# EAGLE library part HEADER_01X34 (library MF_Connectors)
Library: MF_Connectors Description: Header Connector with 34 Positions and 01 Rows. Use the LABEL Attribute to label the pin on the schematic and PCB. You can remove the attributes on the PCB by using the SMASH function on the part and then deleting the text.
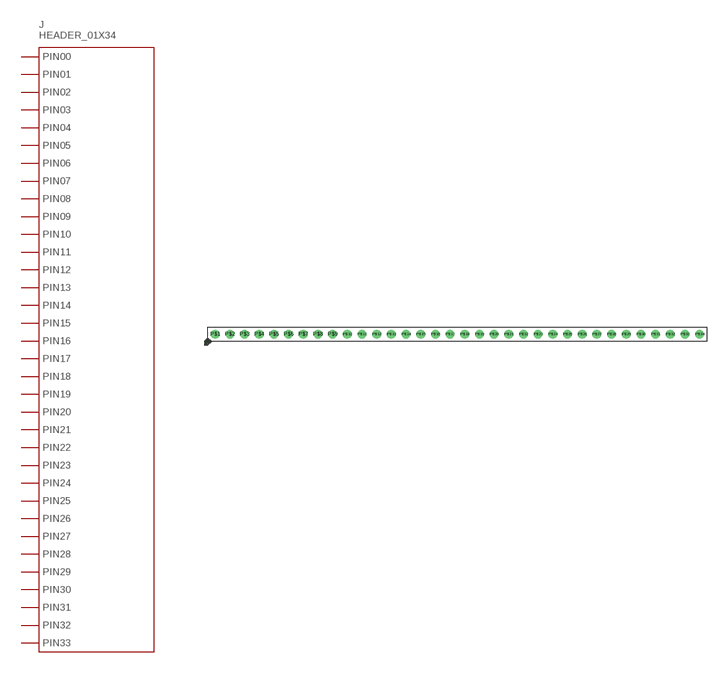
[diagram p30: symbol with the pads of PTH_2.54MM_01X34; footprint PTH_2.54MM_01X34]

Designator prefix J

## HEADER_01X34_PTH_2.54MM  [PTH_2.54MM_01X34]
P$1  PIN0
P$2  PIN1
P$3  PIN2
P$4  PIN3
P$5  PIN4
P$6  PIN5
P$7  PIN6
P$8  PIN7
P$9  PIN8
P$10  PIN9
P$11  PIN10
P$12  PIN11
P$13  PIN12
P$14  PIN13
P$15  PIN14
P$16  PIN15
P$17  PIN16
P$18  PIN17
P$19  PIN18
P$20  PIN19
P$21  PIN20
P$22  PIN21
P$23  PIN22
P$24  PIN23
P$25  PIN24
P$26  PIN25
P$27  PIN26
P$28  PIN27
P$29  PIN28
P$30  PIN29
P$31  PIN30
P$32  PIN31
P$33  PIN32
P$34  PIN33

## Footprint PTH_2.54MM_01X34 (pad centres in mm)
Description: Package for 2.54MM Pitch Header 34 Position. Based on 4UCON 00834.
drill 1: P$1 -41.91,0; P$2 -39.37,0; P$3 -36.83,0; P$4 -34.29,0; P$5 -31.75,0; P$6 -29.21,0; P$7 -26.67,0; P$8 -24.13,0; P$9 -21.59,0; P$10 -19.05,0; P$11 -16.51,0; P$12 -13.97,0; P$13 -11.43,0; P$14 -8.89,0; P$15 -6.35,0; P$16 -3.81,0; P$17 -1.27,0; P$18 1.27,0; P$19 3.81,0; P$20 6.35,0; P$21 8.89,0; P$22 11.43,0; P$23 13.97,0; P$24 16.51,0; P$25 19.05,0; P$26 21.59,0; P$27 24.13,0; P$28 26.67,0; P$29 29.21,0; P$30 31.75,0; P$31 34.29,0; P$32 36.83,0; P$33 39.37,0; P$34 41.91,0